# Altium schematic symbol library Schlib_Crystek.SchLib: 1 symbol
Pins are listed as number, name and electrical type; pins without a type are passive.

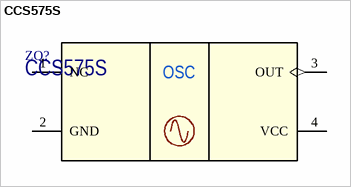
[diagram p0: symbol CCS575S]

## CCS575S
designator ZQ?
True Sinewave SAW(surface acoustic wave) based Clock Oscillator.; Manufacturer: Crystek Corporation; Package: SMD7550 (5.08x7.5mm); Part Number: CCS575S
footprint QFN56 (QFN56 package, 8x8mm, 0.5mm pitch)
pins: 1 NC (hiz), 2 GND (power), 3 OUT (out), 4 VCC (power)
text: OSC